# Altium footprint library CSI_Display.PcbLib: 13 footprints
Each footprint in its own frame and in the unit in brackets; x right, y up, seen from the top. Pads: shape width x height; smd on the part's side, far side on the other; paste and mask are expansions set on the pad; w line width, h text height; cw(c..) or ccw(c..) is an arc to the next point about the centre after c.
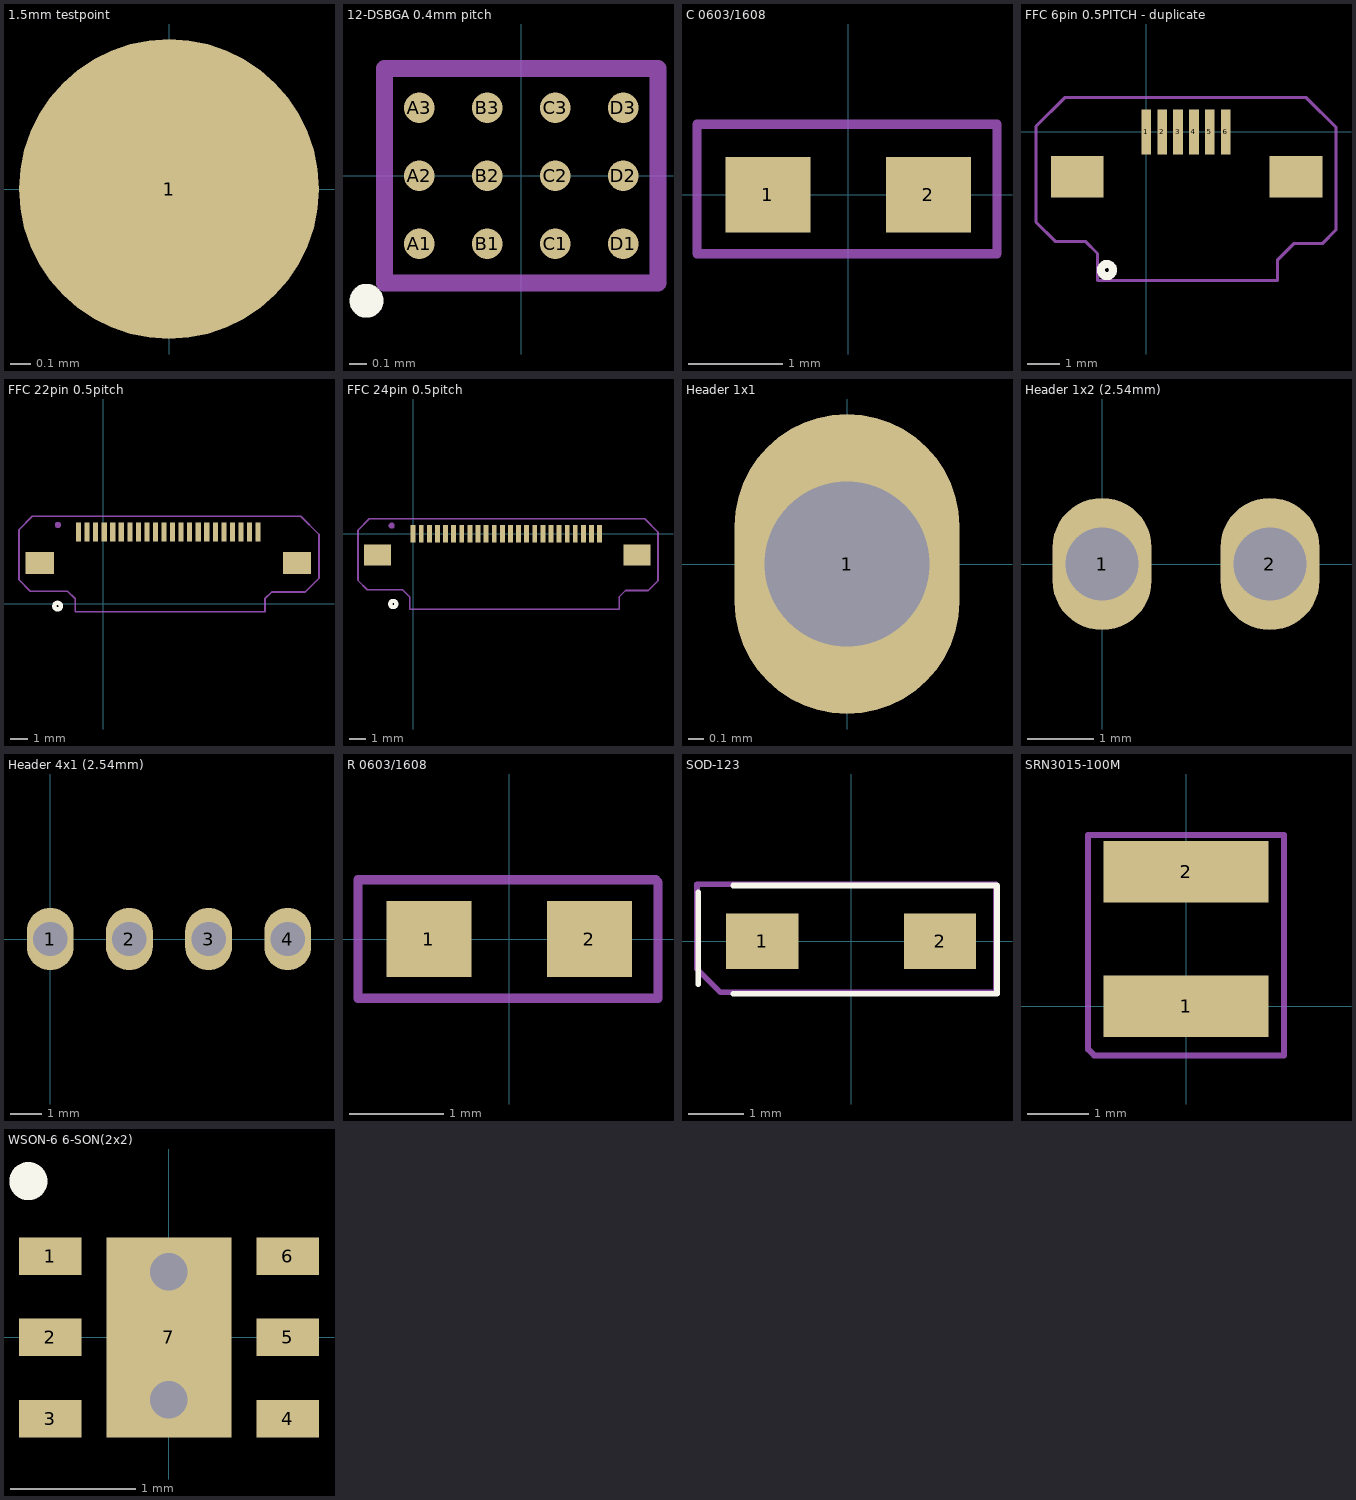
[diagram p0: the footprints below, top view; thin cyan lines are the x and y axes]

## 1.5mm testpoint [mm]
pads (1):
  round 1.5 smd: 1(0,0)

## 12-DSBGA 0.4mm pitch [mm] "BGA, 12-Leads, Body 1,26x1,61mmx0,60mm, Pitch 0,40mm"
height 0.6
pads (12):
  round 0.18 smd: A1(-0.6,-0.4) A2(-0.6,0) A3(-0.6,0.4) B1(-0.2,-0.4) B2(-0.2,0) B3(-0.2,0.4) C1(0.2,-0.4) C2(0.2,0) C3(0.2,0.4) D1(0.6,-0.4) D2(0.6,0) D3(0.6,0.4)
Top Overlay:
  circle w0.1: c-0.91,-0.735 r0.05
Mechanical 29:
  lines w0.1: -0.805,-0.63 -0.805,0.63 0.805,0.63 0.805,-0.63 -0.805,-0.63
  text ".Designator" at -0.7,-0.4 h0.8
3D body: height 0.6, standoff 0.17, extent -0.805,-0.63 0.805,0.63

## C 0603/1608 [mm]
pads (2):
  rect 0.9x0.8 smd: 1(-0.85,0) 2(0.85,0)
Mechanical 29:
  lines w0.1: -1.6,-0.625 1.575,-0.625 1.575,0.75 -1.6,0.75 -1.6,-0.625
  text ".Designator" at -1.4,-0.4 h0.8
3D body: height 0.64, standoff 0, extent 0.85,-0.4 1.3,0.4
3D body: height 0.64, standoff 0, extent -1.3,-0.4 -0.85,0.4
3D body: height 0.64, standoff 0, extent -0.85,-0.4 0.85,0.4

## FFC 6pin 0.5PITCH - duplicate [mm]
pads (8):
  rect 0.3x1.4 smd: 1(0,0) 2(0.5,0) 3(1,0) 4(1.5,0) 5(2,0) 6(2.5,0)
  rect 1.65x1.3 smd: ""(-2.159,-1.397) ""(4.699,-1.397)
Top Overlay:
  circle w0.254: c-1.227,-4.329 r0.19
Mechanical 29:
  lines w0.1: -3.45,-2.825 -2.846,-3.429 -1.905,-3.429 -1.524,-3.81 -1.524,-4.65 4.113,-4.65 4.113,-4.015 4.628,-3.5 5.517,-3.5 5.95,-3.067 5.95,0.146 5.021,1.075 -2.55,1.075 -3.45,0.175 -3.45,-2.825
  text ".Designator" at -0.4,-2.525 h1
3D body "ssfv6r_1stlf.stp": height 1.85, standoff -0.02, extent -2.98,-4.699 5.52,0.201

## FFC 22pin 0.5pitch [mm]
pads (24):
  rect 0.3x1.1 smd: 1(-1.44,4.202) 2(-0.94,4.202) 3(-0.44,4.202) 4(0.06,4.202) 5(0.56,4.202) 6(1.06,4.202) 7(1.56,4.202) 8(2.06,4.202) 9(2.56,4.202) 10(3.06,4.202) 11(3.56,4.202) 12(4.06,4.202) 13(4.56,4.202) 14(5.06,4.202) 15(5.56,4.202) 16(6.06,4.202) 17(6.56,4.202) 18(7.06,4.202) 19(7.56,4.202) 20(8.06,4.202) 21(8.56,4.202) 22(9.06,4.202)
  rect 1.65x1.3 smd: ""(-3.715,2.402) ""(11.335,2.402)
Top Overlay:
  circle w0.254: c-2.667,-0.127 r0.19
Mechanical 29:
  circle w0.254: c-2.65,4.625 r0.056
  lines w0.1: -4.925,1.412 -4.925,4.342 -4.142,5.125 11.562,5.125 12.625,4.062 12.625,1.5 11.827,0.702 9.86,0.702 9.46,0.302 9.46,-0.448 -1.64,-0.448 -1.64,0.302 -2.09,0.752 -4.265,0.752 -4.925,1.412
  text ".Designator" at -0.265,2.302 h1
3D body "FFC22_545482271.stp": height 1.18, standoff -0.02, extent -4.29,-0.548 11.91,4.452

## FFC 24pin 0.5pitch [mm]
pads (26):
  rect 0.3x1.1 smd: 1(0,0) 2(0.5,0) 3(1,0) 4(1.5,0) 5(2,0) 6(2.5,0) 7(3,0) 8(3.5,0) 9(4,0) 10(4.5,0) 11(5,0) 12(5.5,0) 13(6,0) 14(6.5,0) 15(7,0) 16(7.5,0) 17(8,0) 18(8.5,0) 19(9,0) 20(9.5,0) 21(10,0) 22(10.5,0) 23(11,0) 24(11.5,0)
  rect 1.65x1.3 smd: ""(-2.2,-1.3) ""(13.8,-1.3)
Top Overlay:
  circle w0.254: c-1.227,-4.329 r0.19
Mechanical 29:
  circle w0.254: c-1.325,0.5 r0.056
  lines w0.1: -3.4,-2.875 -3.4,0.225 -2.7,0.925 14.275,0.925 15.1,0.1 15.1,-2.9 14.5,-3.5 13.1,-3.5 12.7,-3.9 12.7,-4.65 -0.2,-4.65 -0.2,-3.9 -0.65,-3.45 -2.825,-3.45 -3.4,-2.875
  text ".Designator" at 1.175,-1.9 h1
3D body "ssfv24r_1stlf.stp": height 1.85, standoff -0.02, extent -3,-4.65 14.5,0.25

## Header 1x1 [mm]
pads (1):
  oval 1.5x2 hole 1.1: 1(0,0)

## Header 1x2 (2.54mm) [mm]
pads (2):
  oval 1.5x2 hole 1.1: 1(0,0) 2(2.54,0)

## Header 4x1 (2.54mm) [mm]
pads (4):
  oval 1.5x2 hole 1.1: 1(0,0) 2(2.54,0) 3(5.08,0) 4(7.62,0)
3D body "STP_61300411121 (rev1).stp": height 8.87, standoff -2.67, extent -1.27,-1.27 8.89,1.27

## R 0603/1608 [mm]
pads (2):
  rect 0.9x0.8 smd: 1(-0.85,0) 2(0.85,0)
Mechanical 29:
  lines w0.1: -1.6,-0.625 -1.6,0.625 1.55,0.625 1.575,0.6 1.575,-0.625 -1.6,-0.625
  text ".Designator" at -1.425,-0.4 h0.8
3D body: height 0.64, standoff 0, extent -0.85,-0.4 0.85,0.4
3D body: height 0.64, standoff 0, extent -1.3,-0.4 -0.85,0.4
3D body: height 0.64, standoff 0, extent 0.85,-0.4 1.3,0.4

## SOD-123 [mm]
pads (2):
  rect 1.3x1 smd: 1(-1.6,0) 2(1.6,0)
Top Overlay:
  lines w0.1: -2.75,-0.775 -2.75,0.875 ; -2.125,-0.95 2.625,-0.95 2.625,1 -2.125,1
Mechanical 29:
  lines w0.1: -2.775,-0.5 -2.775,1.025 2.6,1.025 2.6,-0.925 -2.35,-0.925 -2.775,-0.5
  text ".Designator" at -1.8,-0.35 h1
3D body "SOD-123FL.STEP": height 0.95, standoff 0, extent -1.825,-0.825 1.775,0.825

## SRN3015-100M [mm]
pads (2):
  rect 2.7x1 smd: 1(0,0) 2(0,2.2)
Mechanical 29:
  lines w0.1: -1.6,-0.7 -1.5,-0.8 1.6,-0.8 1.6,2.8 -1.6,2.8 -1.6,-0.7
  text ".Designator" at -1.1,0.7 h0.8
3D body "srn3015.stp": height 1.5, standoff 0, extent -1.5,-0.4 1.5,2.6

## WSON-6 6-SON(2x2) [mm]
pads (7):
  rect 0.5x0.3 smd: 1(-0.95,0.65) 2(-0.95,0) 3(-0.95,-0.65) 4(0.95,-0.65) 5(0.95,0) 6(0.95,0.65)
  rect 1x1.6 smd: 7(0,0)
via 0,-0.5 diameter 0.5 hole 0.3
via 0,0.525 diameter 0.5 hole 0.3
Top Overlay:
  circle w0.254: c-1.125,1.25 r0.025
3D body "wson6-2x2.step": height 0.58, standoff -0.03, extent -1,-0.975 1,1.025